# Altium integrated library FB_0805 BLM21AG331SN1D.IntLib: 1 symbol
Pins are listed as number, name and electrical type; pins without a type are passive.

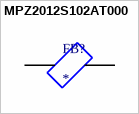
[diagram p0: symbol MPZ2012S102AT000]

## MPZ2012S102AT000
designator FB?
MP: MPZ2012S102AT000; Package: None; Price: None; Value: *; Availability: Unavailable
footprint BEADC2012X105N
pins: 1, 2